# EAGLE library part COIL-4T-NOCT (library Neel)
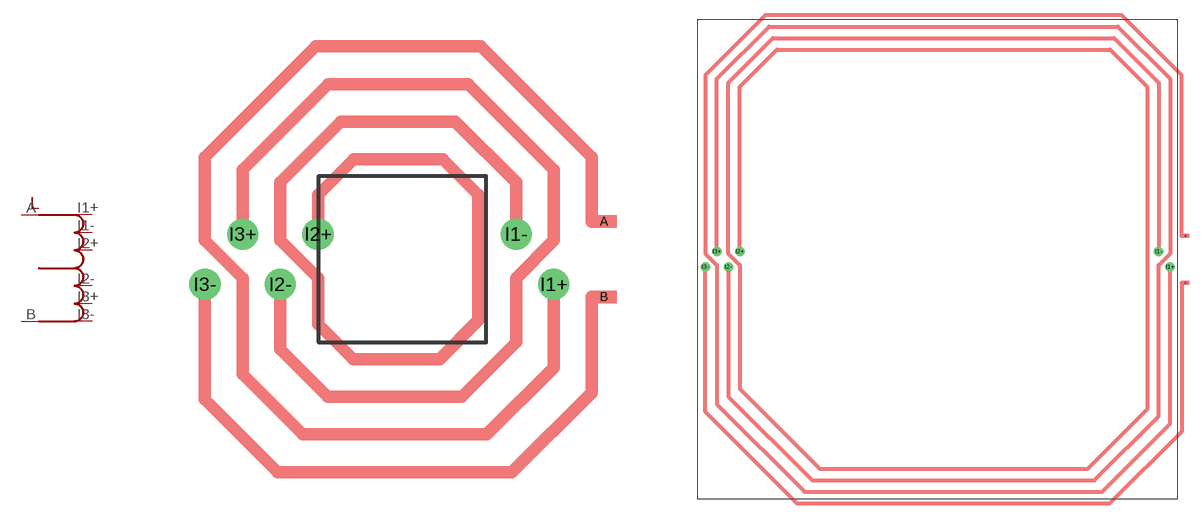
[diagram p55: symbol with the pads of ANT-COIL-1I4T; footprints ANT-COIL-1I4T, ANT-COIL-2I4T]

Designator prefix L

## COIL-4T-NOCT1-INCH  [ANT-COIL-1I4T]
A  A
B  B
I1+  1+
I1-  1-
I2+  2+
I2-  2-
I3+  3+
I3-  3-

## COIL-4T-NOCT2-INCH  [ANT-COIL-2I4T]
Pads as for ANT-COIL-1I4T

## COIL-4T-NOCT3-INCH  [ANT-COIL-3I4T]
Pads as for ANT-COIL-1I4T

## COIL-4T-NOCT  [ANT-COIL-0.5I4T]
Pads as for ANT-COIL-1I4T

## Footprint ANT-COIL-1I4T (pad centres in mm)
smd 0.813 x 0.406: A 6.524,1.219; B 6.524,-1.219
drill 0.5: I1+ 4.898,-0.813; I1- 3.679,0.813; I2+ -2.73,0.813; I2- -3.949,-0.813; I3+ -5.168,0.813; I3- -6.387,-0.813

## Footprint ANT-COIL-2I4T (pad centres in mm)
smd 0.813 x 0.406: A 26.264,2.489; B 26.264,-2.489
drill 0.5: I1+ 24.638,-0.813; I1- 23.419,0.813; I2+ -20.93,0.813; I2- -22.149,-0.813; I3+ -23.368,0.813; I3- -24.587,-0.813

## Footprint ANT-COIL-3I4T (pad centres in mm)
smd 0.813 x 0.406: A 38.964,2.489; B 38.964,-2.489
drill 0.5: I1+ 37.338,-0.813; I1- 36.119,0.813; I2+ -33.63,0.813; I2- -34.849,-0.813; I3+ -36.068,0.813; I3- -37.287,-0.813

## Footprint ANT-COIL-0.5I4T (pad centres in mm)
smd 0.813 x 0.406: A 6.524,1.219; B 6.524,-1.219
drill 0.5: I1+ 4.898,-0.813; I1- 3.679,0.813; I2+ -2.73,0.813; I2- -3.949,-0.813; I3+ -5.168,0.813; I3- -6.387,-0.813